# EAGLE library part HEADER_35P (library Bauteile)
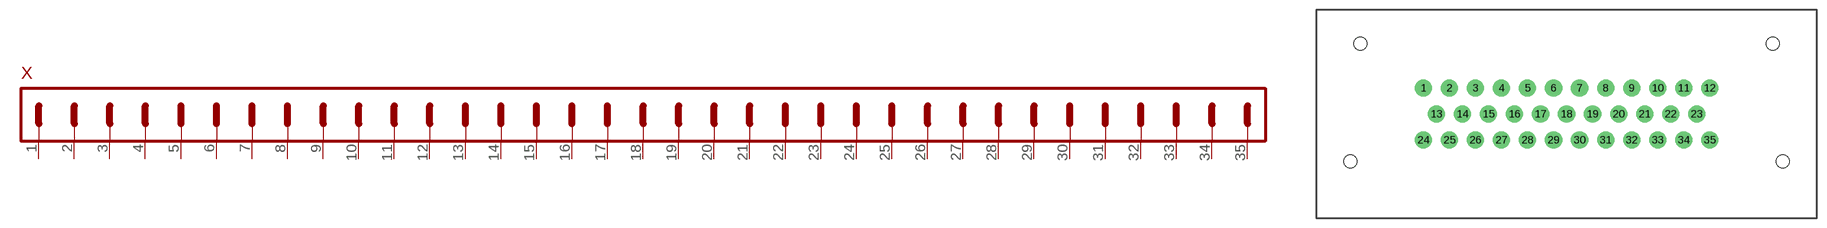
[diagram p159: symbol with the pads of AMPSEAL_776231-X; footprint AMPSEAL_776231-X]

Designator prefix X

## HEADER_35P(AMPSEAL_776231-X)  [AMPSEAL_776231-X]
1  PIN1
2  PIN2
3  PIN3
4  PIN4
5  PIN5
6  PIN6
7  PIN7
8  PIN8
9  PIN9
10  PIN10
11  PIN11
12  PIN12
13  PIN13
14  PIN14
15  PIN15
16  PIN16
17  PIN17
18  PIN18
19  PIN19
20  PIN20
21  PIN21
22  PIN22
23  PIN23
24  PIN24
25  PIN25
26  PIN26
27  PIN27
28  PIN28
29  PIN29
30  PIN30
31  PIN31
32  PIN32
33  PIN33
34  PIN34
35  PIN35

## Footprint AMPSEAL_776231-X (pad centres in mm)
drill 1.75: 1 -22,4; 2 -18,4; 3 -14,4; 4 -10,4; 5 -6,4; 6 -2,4; 7 2,4; 8 6,4; 9 10,4; 10 14,4; 11 18,4; 12 22,4; 13 -20,0; 14 -16,0; 15 -12,0; 16 -8,0; 17 -4,0; 18 0,0; 19 4,0; 20 8,0; 21 12,0; 22 16,0; 23 20,0; 24 -22,-4; 25 -18,-4; 26 -14,-4; 27 -10,-4; 28 -6,-4; 29 -2,-4; 30 2,-4; 31 6,-4; 32 10,-4; 33 14,-4; 34 18,-4; 35 22,-4
hole 2 at -31.7,10.8
hole 2 at 31.7,10.8
hole 2 at -33.2,-7.3
hole 2 at 33.2,-7.3